# Altium schematic symbol library ADM4210-1.Schlib: 1 symbol
Pins are listed as number, name and electrical type; pins without a type are passive.

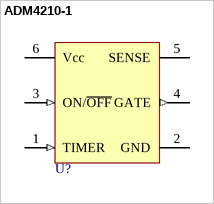
[diagram p0: symbol ADM4210-1]

## ADM4210-1
designator U?
Hot-swap controller; Package Information: Latest Revision: ver11.0, Feb-2003; Configures: APEX II, APEX 20K, Mercury, ACEX 1K & FLEX Devices; Code - JEDEC: MS-026-ABA; Published: 17-Sep-2003; Datasheet: Latest Revision: ver1.1, Oct-2003; Package Reference: TQFP32; Publisher: Altium Limited
footprint SOT23-6
pins: 1 TIMER (in), 2 GND (power), 3 ON/~{OFF} (in), 4 GATE (out), 5 SENSE, 6 Vcc (power)